# Altium schematic symbol library Oscillator.SchLib: 2 symbols
Pins are listed as number, name and electrical type; pins without a type are passive.

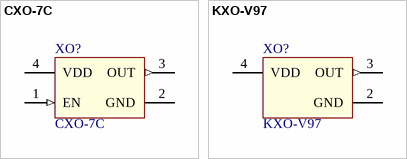
[diagram p0: symbols CXO-7C to KXO-V97]

## CXO-7C
designator XO?
value: CXO-7C
footprint CXO-5032 (TXC 7C SMD CMOS CXO Oscillators)
pins: 1 EN (in), 2 GND (power), 3 OUT (out), 4 VDD (power)

## KXO-V97
designator XO?
value: KXO-xxx
footprint KXO-V97 (DFN, 4-Leads, Body 7,00x5,08mm, Pitch 5,08mm, IPC Medium Density)
pins: 2 GND (power), 3 OUT (out), 4 VDD (power)